# EAGLE library part DRV8825 (library DRV8825)
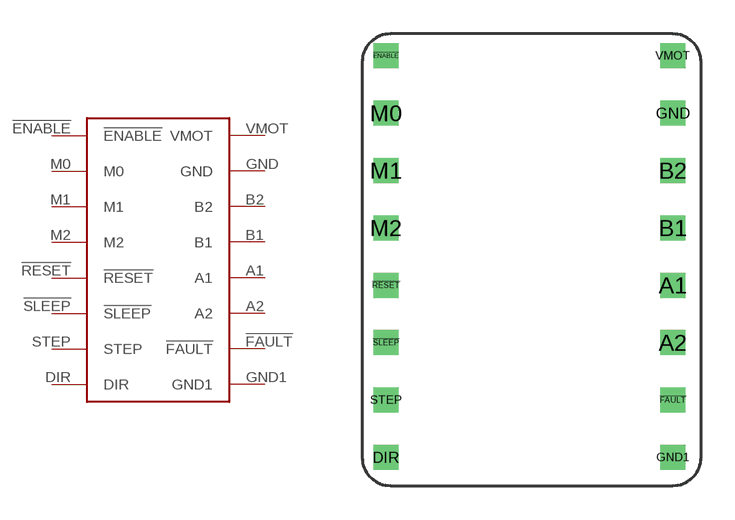
[diagram p0: symbol with the pads of DRV8825; footprint DRV8825]

Designator prefix -

## DRV8825  [DRV8825]
!ENABLE  !ENABLE
!FAULT  !FAULT
!RESET  !RESET
!SLEEP  !SLEEP
A1  A1
A2  A2
B1  B1
B2  B2
DIR  DIR
GND  GND
GND1  GND1
M0  M0
M1  M1
M2  M2
STEP  STEP
VMOT  VMOT

## Footprint DRV8825 (pad centres in mm)
drill 0.6 square: !ENABLE 3.81,11.43; !FAULT 16.51,-3.81; !RESET 3.81,1.27; !SLEEP 3.81,-1.27; A1 16.51,1.27; A2 16.51,-1.27; B1 16.51,3.81; B2 16.51,6.35; DIR 3.81,-6.35; GND 16.51,8.89; GND1 16.51,-6.35; M0 3.81,8.89; M1 3.81,6.35; M2 3.81,3.81; STEP 3.81,-3.81; VMOT 16.51,11.43